# EAGLE library part ESP8266-6_PIN (library p.peter-connectors)
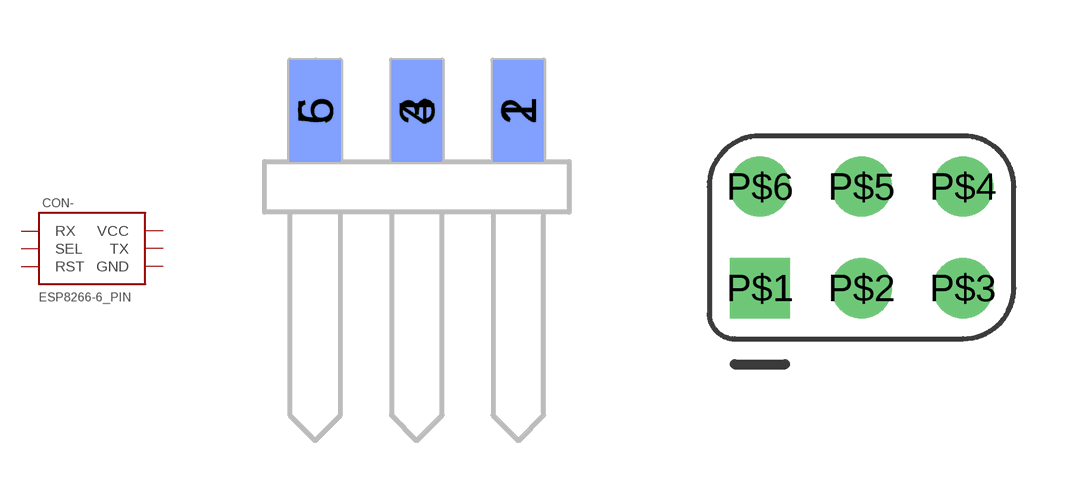
[diagram p13: symbol with the pads of EDGE-6_PIN; footprints EDGE-6_PIN, PINHEADER-100-MIL-2X6-ISP]

Designator prefix CON-

## ESP8266-6_PIN-EDGE  [EDGE-6_PIN]
1  RX
2  VCC  pwr
3  SEL
4  TX
5  RST
6  GND  pwr

## ESP8266-6_PIN-STD  [PINHEADER-100-MIL-2X6-ISP]
P$1  RX
P$2  SEL
P$3  RST
P$4  GND  pwr
P$5  TX
P$6  VCC  pwr

## ESP8266-6_PIN-POGO  [POGO-1.27-6_PIN-MADWORM]
P$1  RX
P$2  VCC  pwr
P$3  SEL
P$4  TX
P$5  RST
P$6  GND  pwr

## ESP8266-6_PIN-EDGE-INV  [EDGE-6_PIN]
1  VCC  pwr
2  RX
3  TX
4  SEL
5  GND  pwr
6  RST

## Footprint EDGE-6_PIN (pad centres in mm)
smd 1.27 x 2.54: 1 2.54,0; 3 0,0; 5 -2.54,0
smd 1.27 x 2.54 bottom: 2 2.54,0; 4 0,0; 6 -2.54,0

## Footprint PINHEADER-100-MIL-2X6-ISP (pad centres in mm)
drill 1 square: P$1 -2.54,-1.27
drill 1: P$2 0,-1.27; P$3 2.54,-1.27; P$4 2.54,1.27; P$5 0,1.27; P$6 -2.54,1.27

## Footprint POGO-1.27-6_PIN-MADWORM (pad centres in mm)
smd 0.8 x 0.8: P$1 -1.27,-0.635; P$2 -1.27,0.635; P$5 1.27,-0.635; P$6 1.27,0.635
drill 0.35: P$3 0,-0.635; P$4 0,0.635